# Altium schematic symbol library optical.SchLib: 1 symbol
Pins are listed as number, name and electrical type; pins without a type are passive.

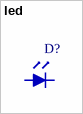
[diagram p0: symbol led]

## led
designator D?
=Description
pins: 1 Cathode, 2 Anode